# Altium footprint library SO-16.PcbLib: 2 footprints
Each footprint in its own frame and in the unit in brackets; x right, y up, seen from the top. Pads: shape width x height; smd on the part's side, far side on the other; paste and mask are expansions set on the pad; w line width, h text height; cw(c..) or ccw(c..) is an arc to the next point about the centre after c.
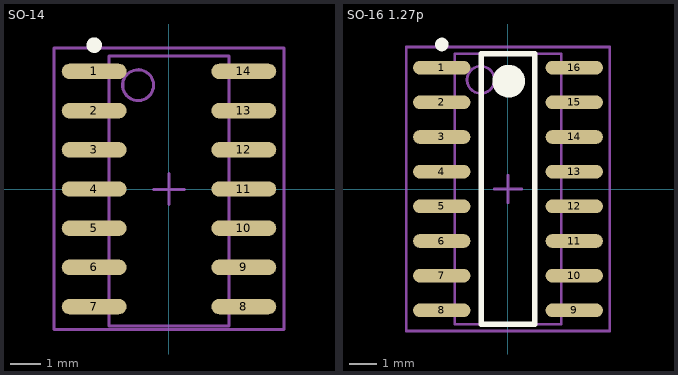
[diagram p0: the footprints below, top view; thin cyan lines are the x and y axes]

## SO-14 [mm] "SO-14 1.27p"
height 1.75
pads (14):
  oval 2.1x0.5 smd: 1(-2.425,3.81) 2(-2.425,2.54) 3(-2.425,1.27) 4(-2.425,0) 5(-2.425,-1.27) 6(-2.425,-2.54) 7(-2.425,-3.81) 8(2.425,-3.81) 9(2.425,-2.54) 10(2.425,-1.27) 11(2.425,0) 12(2.425,1.27) 13(2.425,2.54) 14(2.425,3.81)
Top Overlay:
  circle w0.25: c-2.425,4.66 r0.125
Mechanical 13:
  circle w0.1: c-1,3.365 r0.5
  lines w0.1: -1.95,-4.445 1.95,-4.445 1.95,4.315 -1.95,4.315 -1.95,-4.445
Mechanical 15:
  lines w0.1: -0.5,-0.01 0.5,-0.01 ; 0,-0.5 0,0.5 ; -3.725,-4.555 3.725,-4.555 3.725,4.565 -3.725,4.565 -3.725,-4.555
3D body: height 1.55, standoff 0, extent -3,-4.325 3,4.325

## SO-16 1.27p [mm] "SO-16 1.27p"
height 1.75
pads (16):
  oval 2.1x0.5 smd: 1(-2.425,4.445) 2(-2.425,3.175) 3(-2.425,1.905) 4(-2.425,0.635) 5(-2.425,-0.635) 6(-2.425,-1.905) 7(-2.425,-3.175) 8(-2.425,-4.445) 9(2.425,-4.445) 10(2.425,-3.175) 11(2.425,-1.905) 12(2.425,-0.635) 13(2.425,0.635) 14(2.425,1.905) 15(2.425,3.175) 16(2.425,4.445)
Top Overlay:
  circle w0.6: c0.025,3.95 r0.3
  circle w0.25: c-2.425,5.295 r0.125
  lines w0.2: -0.975,-4.95 0.975,-4.95 0.975,4.95 -0.975,4.95 -0.975,-4.95
Mechanical 13:
  circle w0.1: c-1,4 r0.5
  lines w0.1: -1.95,-4.95 1.95,-4.95 1.95,4.95 -1.95,4.95 -1.95,-4.95
Mechanical 15:
  lines w0.1: -0.5,0 0.5,0 ; 0,-0.5 0,0.5 ; -3.725,-5.2 3.725,-5.2 3.725,5.2 -3.725,5.2 -3.725,-5.2
3D body: height 1.75, standoff -0.02, extent -3.089,-4.985 3.048,4.985